# Altium schematic symbol library LM27762DSSR.SchLib: 1 symbol
Pins are listed as number, name and electrical type; pins without a type are passive.

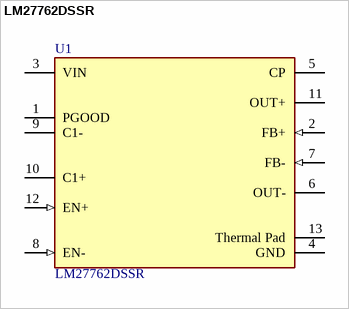
[diagram p0: symbol LM27762DSSR]

## LM27762DSSR
designator U1
IC REG CHARGE PUMP ADJ DL 12WSON; Switching Frequency: 2.3MHz; Output Current: 250mA; Output Type: Adjustable; Min Output Voltage: 1.5V; Min Input Voltage: 2.7V; Synchronous Rectifier: No; Quiescent Current: 390uA; Max Input Voltage: 5.5V; Max Output Voltage: 5V; Mount: Surface Mount; Lead Free: Lead Free; Topology: Charge Pump; Max Operating Temperature: 85°C; Min Operating Temperature: -40°C; Packaging: Tape and Reel
footprint FP-DSS0012B
pins: 1 PGOOD (oc), 2 FB+ (in), 3 VIN (power), 4 GND (power), 5 CP, 6 OUT-, 7 FB- (in), 8 EN- (in), 9 C1-, 10 C1+, 11 OUT+, 12 EN+ (in), 13 Thermal Pad